# EAGLE library part PIC18F1*20? (library microchip-7)
18/20/28-Pin High-Performance, Enhanced Flash Microcontrollers with 10-bit A/D and nanoWatt Technology Source: ww1.microchip.com/downloads/en/DeviceDoc/39605c.pdf
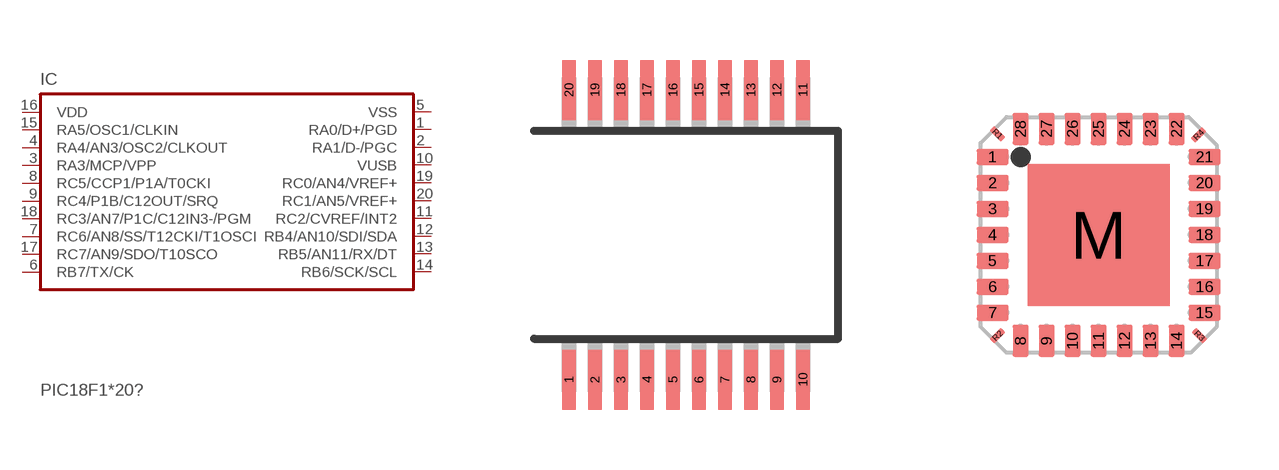
[diagram p58: symbol with the pads of SSOP20; footprints SSOP20, QFN28]

Designator prefix IC

## PIC18F1220SS, PIC18F1320SS  [SSOP20]
1  RA0/D+/PGD
2  RA1/D-/PGC
3  RA3/MCP/VPP
4  RA4/AN3/OSC2/CLKOUT  in
5  VSS  pwr
6  RB7/TX/CK  pwr
7  RC6/AN8/SS/T12CKI/T1OSCI
8  RC5/CCP1/P1A/T0CKI
9  RC4/P1B/C12OUT/SRQ
10  VUSB
11  RC2/CVREF/INT2
12  RB4/AN10/SDI/SDA
13  RB5/AN11/RX/DT
14  RB6/SCK/SCL
15  RA5/OSC1/CLKIN  pwr
16  VDD  pwr
17  RC7/AN9/SDO/T10SCO
18  RC3/AN7/P1C/C12IN3-/PGM
19  RC0/AN4/VREF+
20  RC1/AN5/VREF+

## PIC18F1220ML, PIC18F1320ML  [QFN28]
1  RA4/AN3/OSC2/CLKOUT  in
3  VSS  pwr
5  RB7/TX/CK  pwr
7  RC6/AN8/SS/T12CKI/T1OSCI
8  RC5/CCP1/P1A/T0CKI
9  RC4/P1B/C12OUT/SRQ
10  VUSB
12  RC2/CVREF/INT2
13  RB4/AN10/SDI/SDA
15  RB5/AN11/RX/DT
16  RB6/SCK/SCL
17  RA5/OSC1/CLKIN  pwr
19  VDD  pwr
20  RC7/AN9/SDO/T10SCO
21  RC3/AN7/P1C/C12IN3-/PGM
23  RC0/AN4/VREF+
24  RC1/AN5/VREF+
26  RA0/D+/PGD
27  RA1/D-/PGC
28  RA3/MCP/VPP

## Footprint SSOP20 (pad centres in mm)
Shrink Small Outline Package package type SS
smd 0.33 x 1.5: 1 -2.925,-3.625; 2 -2.275,-3.625; 3 -1.625,-3.625; 4 -0.975,-3.625; 5 -0.325,-3.625; 6 0.325,-3.625; 7 0.975,-3.625; 8 1.625,-3.625; 9 2.275,-3.625; 10 2.925,-3.625; 11 2.925,3.625; 12 2.275,3.625; 13 1.625,3.625; 14 0.975,3.625; 15 0.325,3.625; 16 -0.325,3.625; 17 -0.975,3.625; 18 -1.625,3.625; 19 -2.275,3.625; 20 -2.925,3.625

## Footprint QFN28 (pad centres in mm)
28-Lead Plastic Quad Flat No Lead Package (ML) 6x6 mm Body, Punch Singulated (QFN) Source: ww1.microchip.com/downloads/en/DeviceDoc/39605c.pdf
smd 0.8 x 0.4: 1 -2.65,1.95; 2 -2.65,1.3; 3 -2.65,0.65; 4 -2.65,0; 5 -2.65,-0.65; 6 -2.65,-1.3; 7 -2.65,-1.95; 15 2.65,-1.95; 16 2.65,-1.3; 17 2.65,-0.65; 18 2.65,0; 19 2.65,0.65; 20 2.65,1.3; 21 2.65,1.95
smd 0.4 x 0.8: 8 -1.95,-2.65; 9 -1.3,-2.65; 10 -0.65,-2.65; 11 0,-2.65; 12 0.65,-2.65; 13 1.3,-2.65; 14 1.95,-2.65; 22 1.95,2.65; 23 1.3,2.65; 24 0.65,2.65; 25 0,2.65; 26 -0.65,2.65; 27 -1.3,2.65; 28 -1.95,2.65
smd 3.55 x 3.55: M 0,0
smd 0.17 x 0.4 rotated 45: R1 -2.525,2.525
smd 0.17 x 0.4 rotated 135: R2 -2.525,-2.525
smd 0.17 x 0.4 rotated 225: R3 2.525,-2.525
smd 0.17 x 0.4 rotated 315: R4 2.5,2.5